# Altium footprint library ISSI SRAM ASynchronous SRAM High Speed Low Power.PcbLib: 17 footprints (part 2 of 2)
Each footprint in its own frame and in the unit in brackets; x right, y up, seen from the top. Pads: shape width x height; smd on the part's side, far side on the other; paste and mask are expansions set on the pad; w line width, h text height; cw(c..) or ccw(c..) is an arc to the next point about the centre after c.
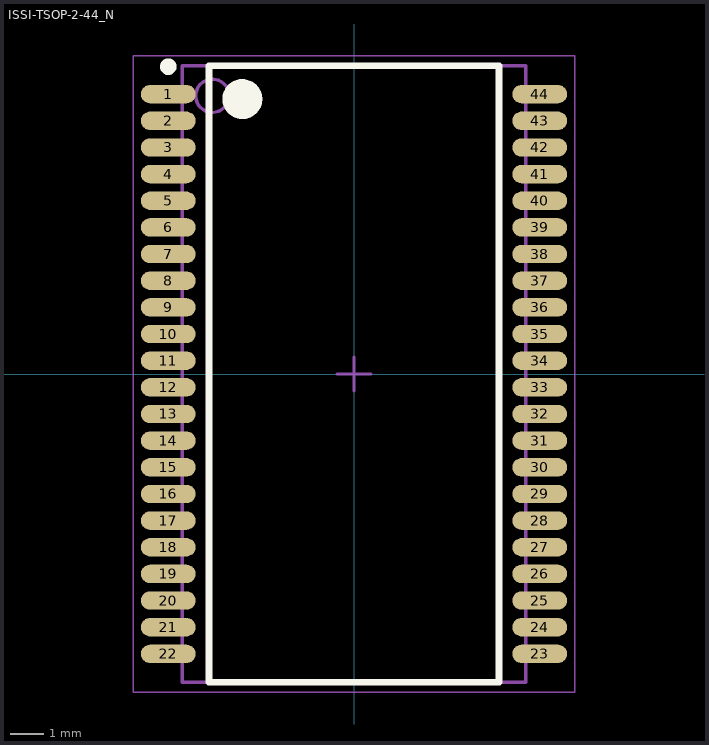
[diagram p1: the footprint, top view; thin cyan lines are the x and y axes]

## ISSI-TSOP-2-44_N [mm] "SOP, 44-Leads, Body 18.5x10.3mm, Pitch 0.8mm, IPC Medium Density"
height 1.2
pads (44):
  oval 1.65x0.55 smd: 1(-5.575,8.4) 2(-5.575,7.6) 3(-5.575,6.8) 4(-5.575,6) 5(-5.575,5.2) 6(-5.575,4.4) 7(-5.575,3.6) 8(-5.575,2.8) 9(-5.575,2) 10(-5.575,1.2) 11(-5.575,0.4) 12(-5.575,-0.4) 13(-5.575,-1.2) 14(-5.575,-2) 15(-5.575,-2.8) 16(-5.575,-3.6) 17(-5.575,-4.4) 18(-5.575,-5.2) 19(-5.575,-6) 20(-5.575,-6.8) 21(-5.575,-7.6) 22(-5.575,-8.4) 23(5.575,-8.4) 24(5.575,-7.6) 25(5.575,-6.8) 26(5.575,-6) 27(5.575,-5.2) 28(5.575,-4.4) 29(5.575,-3.6) 30(5.575,-2.8) 31(5.575,-2) 32(5.575,-1.2) 33(5.575,-0.4) 34(5.575,0.4) 35(5.575,1.2) 36(5.575,2) 37(5.575,2.8) 38(5.575,3.6) 39(5.575,4.4) 40(5.575,5.2) 41(5.575,6) 42(5.575,6.8) 43(5.575,7.6) 44(5.575,8.4)
Top Overlay:
  circle w0.25: c-5.575,9.225 r0.125
  circle w0.6: c-3.35,8.25 r0.3
  lines w0.2: -4.35,-9.25 -4.35,9.25 4.35,9.25 4.35,-9.25 -4.35,-9.25
Mechanical 13:
  circle w0.1: c-4.25,8.35 r0.5
  lines w0.1: -5.15,-9.25 -5.15,9.25 5.15,9.25 5.15,-9.25 -5.15,-9.25
Mechanical 15:
  lines w0.05: -6.625,-9.55 -6.625,9.55 6.625,9.55 6.625,-9.55 -6.625,-9.55
  lines w0.1: -0.5,0 0.5,0 ; 0,-0.5 0,0.5
3D body: height 1.2, standoff 0.05, extent -5.15,-9.25 5.15,9.25